# Altium schematic symbol library 刘强SCH.SchLib: 43 symbols
Pins are listed as number, name and electrical type; pins without a type are passive.

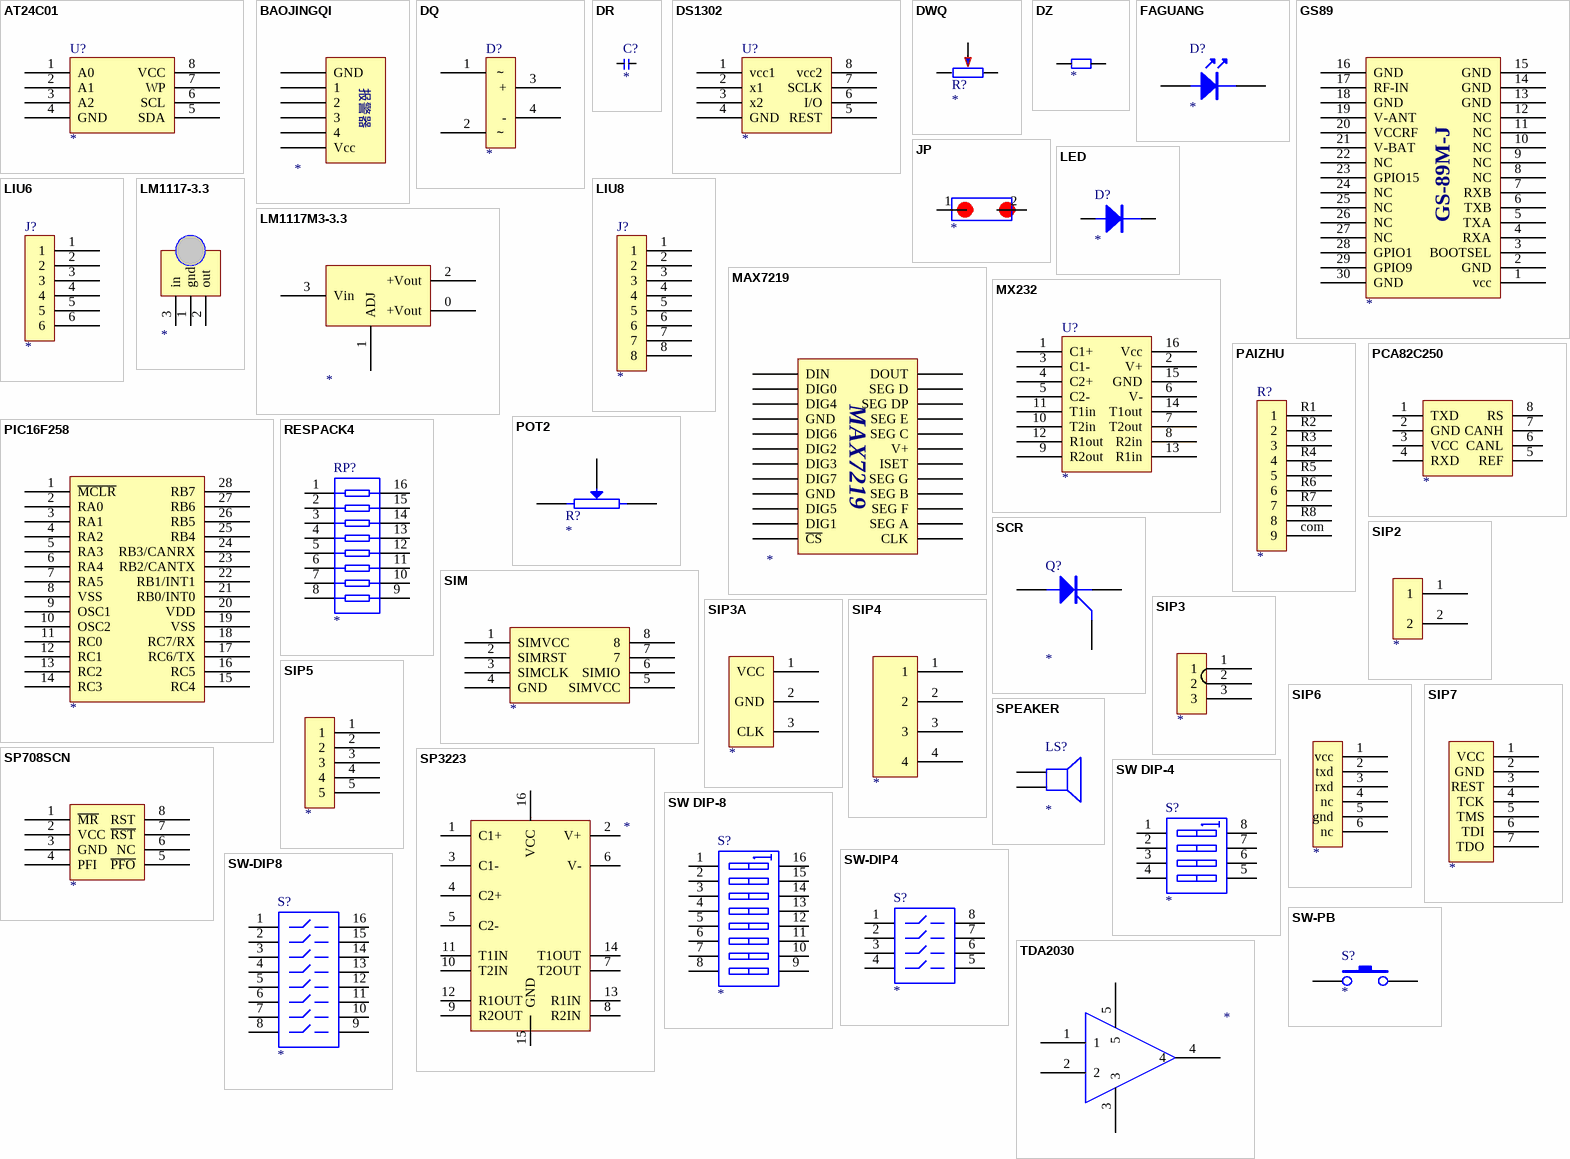
[diagram p0: symbols AT24C01 to TDA2030]

## AT24C01
designator U?
footprint DIP8
pins: 1 A0, 2 A1, 3 A2, 4 GND, 5 SDA, 6 SCL, 7 WP, 8 VCC

## BAOJINGQI
designator ?
pins: 1 GND, 2 1, 3 2, 4 3, 5 4, 6 Vcc
text: 报警器

## DQ
designator D?
footprint DQ1
pins: 1 ～, 2 ～, 3 +, 4 -

## DR
designator C?
footprint RAD0.1
pins: 1, 2

## DS1302
designator U?
footprint DIP4
pins: 1 vcc1, 2 x1, 3 x2, 4 GND, 5 REST, 6 I/O, 7 SCLK, 8 vcc2

## DWQ
designator R?
footprint DWQ
pins: 1, 2, 3 W

## DZ
designator ?
pins: 1, 2

## FAGUANG
designator D?
footprint FG_12
pins: 1, 2

## GS89
designator ?
pins: 1 vcc, 2 GND, 3 BOOTSEL, 4 RXA, 5 TXA, 6 TXB, 7 RXB, 8 NC, 9 NC, 10 NC, 11 NC, 12 NC, 13 GND, 14 GND, 15 GND, 16 GND, 17 RF-IN, 18 GND, 19 V-ANT, 20 VCCRF, 21 V-BAT, 22 NC, 23 GPIO15, 24 NC, 25 NC, 26 NC, 27 NC, 28 GPIO1, 29 GPIO9, 30 GND
text: GS-89M-J

## JP
designator ?
pins: 1, 2

## LED
designator D?
pins: 1, 2

## LIU6
designator J?
footprint SIP6
pins: 1, 2, 3, 4, 5, 6

## LIU8
designator J?
footprint SIP8
pins: 1, 2, 3, 4, 5, 6, 7, 8

## LM1117-3.3
designator ?
pins: 1 gnd, 2 out, 3 in

## LM1117M3-3.3
designator ?
pins: 0 +Vout, 1 ADJ, 2 +Vout, 3 Vin

## MAX7219
designator ?
pins: 1 DIN, 2 DIG0, 3 DIG4, 4 GND, 5 DIG6, 6 DIG2, 7 DIG3, 8 DIG7, 9 GND, 10 DIG5, 11 DIG1, 12 ~{CS}, 13 CLK, 14 SEG A, 15 SEG F, 16 SEG B, 17 SEG G, 18 ISET, 19 V+, 20 SEG C, 21 SEG E, 22 SEG DP, 23 SEG D, 24 DOUT

## MX232
designator U?
footprint DIP16
pins: 1 C1+, 2 V+, 3 C1-, 4 C2+, 5 C2-, 6 V-, 7 T2out, 8 R2in, 9 R2out, 10 T2in, 11 T1in, 12 R1out, 13 R1in, 14 T1out, 15 GND, 16 Vcc

## PAIZHU
designator R?
footprint SIP8
pins: com 9, R1 1, R2 2, R3 3, R4 4, R5 5, R6 6, R7 7, R8 8

## PCA82C250
designator ?
pins: 1 TXD, 2 GND, 3 VCC, 4 RXD, 5 REF, 6 CANL, 7 CANH, 8 RS

## PIC16F258
designator ?
pins: 1 ~{MCLR}, 2 RA0, 3 RA1, 4 RA2, 5 RA3, 6 RA4, 7 RA5, 8 VSS, 9 OSC1, 10 OSC2, 11 RC0, 12 RC1, 13 RC2, 14 RC3, 15 RC4, 16 RC5, 17 RC6/TX, 18 RC7/RX, 19 VSS, 20 VDD, 21 RB0/INT0, 22 RB1/INT1, 23 RB2/CANTX, 24 RB3/CANRX, 25 RB4, 26 RB5, 27 RB6, 28 RB7

## POT2
designator R?
Potentiometer
pins: 1, 2, 3 W

## RESPACK4
designator RP?
footprint DIP-16
pins: 1, 2, 3, 4, 5, 6, 7, 8, 9, 10, 11, 12, 13, 14, 15, 16

## SCR
designator Q?
pins: 1 A, 2 K, 3 G

## SIM
designator ?
pins: 1 SIMVCC, 2 SIMRST, 3 SIMCLK, 4 GND, 5 SIMVCC, 6 SIMIO, 7, 8

## SIP2
designator ?
pins: 1, 2

## SIP3
designator ?
pins: 1, 2, 3

## SIP3A
designator ?
pins: 1 VCC, 2 GND, 3 CLK

## SIP4
designator ?
pins: 1, 2, 3, 4

## SIP5
designator ?
pins: 1, 2, 3, 4, 5

## SIP6
designator ?
pins: 1 vcc, 2 txd, 3 rxd, 4 nc, 5 gnd, 6 nc

## SIP7
designator ?
pins: 1 VCC, 2 GND, 3 REST, 4 TCK, 5 TMS, 6 TDI, 7 TDO

## SP708SCN
designator ?
pins: 1 ~{MR}, 2 VCC, 3 GND, 4 PFI, 5 ~{PFO}, 6 NC, 7 ~{RST}, 8 RST

## SP3223
designator ?
pins: 1 C1+, 2 V+, 3 C1-, 4 C2+, 5 C2-, 6 V-, 7 T2OUT, 8 R2IN, 9 R2OUT, 10 T2IN, 11 T1IN, 12 R1OUT, 13 R1IN, 14 T1OUT, 15 GND, 16 VCC

## SPEAKER
designator LS?
pins: 1, 2

## SW DIP-4
designator S?
DIP Switch
pins: 1 A1, 2 A2, 3 A3, 4 A4, 5 B4, 6 B3, 7 B2, 8 B1

## SW DIP-8
designator S?
DIP Switch
pins: 1 A1, 2 A2, 3 A3, 4 A4, 5 A5, 6 A6, 7 A7, 8 A8, 9 B8, 10 B7, 11 B6, 12 B5, 13 B4, 14 B3, 15 B2, 16 B1

## SW-DIP4
designator S?
footprint DIP-8
pins: 1, 2, 3, 4, 5, 6, 7, 8

## SW-DIP8
designator S?
footprint DIP-16
pins: 1, 2, 3, 4, 5, 6, 7, 8, 9, 10, 11, 12, 13, 14, 15, 16

## SW-PB
designator S?
pins: 1, 2

## TDA2030
designator ?
pins: 1, 2, 3, 4, 5

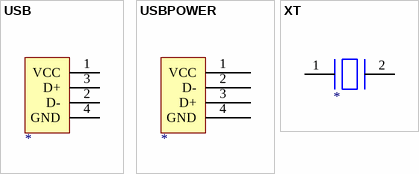
[diagram p1: symbols USB to XT]

## USB
designator ?
pins: 1 VCC, 2 D-, 3 D+, 4 GND

## USBPOWER
designator ?
pins: 1 VCC, 2 D-, 3 D+, 4 GND

## XT
designator ?
pins: 1, 2